# EAGLE library part EPM7192-P160 (library altera)
EPM7192E MAX 7000 family
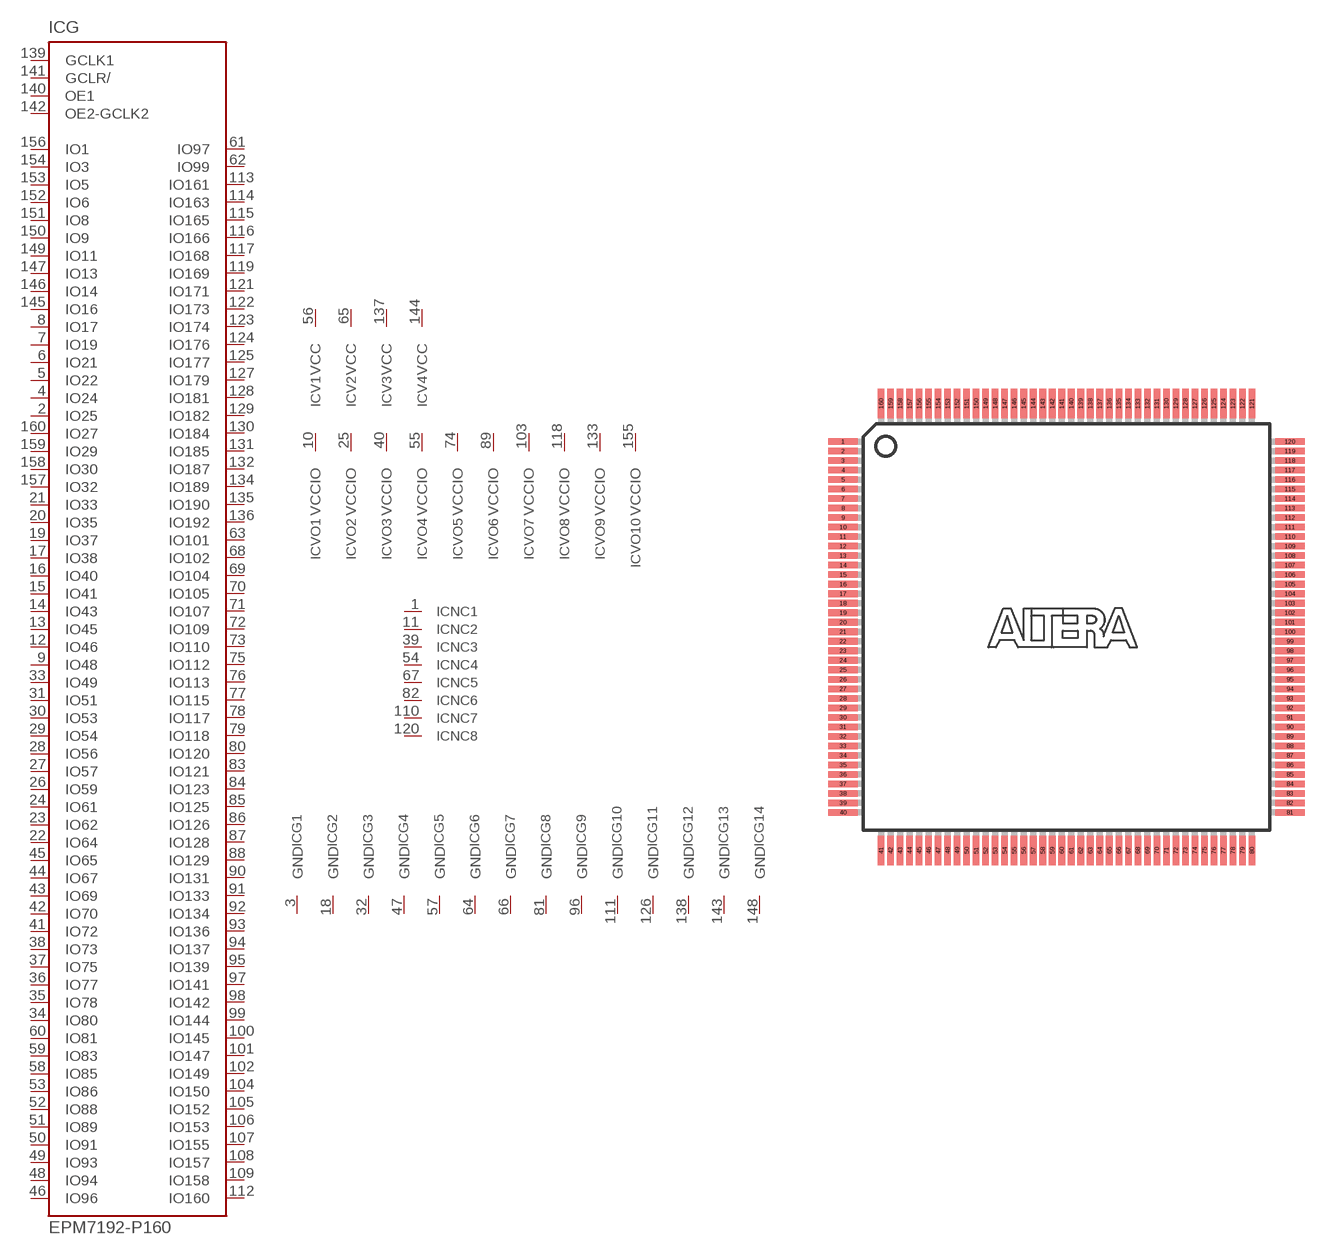
[diagram p19: symbol with the pads of PQFP160; footprint PQFP160]

Designator prefix IC; gates G1=GND G2=GND G3=GND G4=GND G5=GND G6=GND G7=GND G8=GND G9=GND G10=GND G11=GND G12=GND G13=GND G14=GND V1=VCCINT V2=VCCINT V3=VCCINT V4=VCCINT VO1=VCCIO VO2=VCCIO VO3=VCCIO VO4=VCCIO VO5=VCCIO VO6=VCCIO VO7=VCCIO VO8=VCCIO VO9=VCCIO VO10=VCCIO G=7192 NC1=NC NC2=NC NC3=NC NC4=NC NC5=NC NC6=NC NC7=NC NC8=NC

## EPM7192-P160 (MPN: EPM7192SQC160-10N; OC_FARNELL: 1549438; OC_NEWARK: 51R9820)  [PQFP160]
1  NC1:NC  nc
2  G:IO25
3  G1:GND  pwr
4  G:IO24
5  G:IO22
6  G:IO21
7  G:IO19
8  G:IO17
9  G:IO48
10  VO1:VCCIO  pwr
11  NC2:NC  nc
12  G:IO46
13  G:IO45
14  G:IO43
15  G:IO41
16  G:IO40
17  G:IO38
18  G2:GND  pwr
19  G:IO37
20  G:IO35
21  G:IO33
22  G:IO64
23  G:IO62
24  G:IO61
25  VO2:VCCIO  pwr
26  G:IO59
27  G:IO57
28  G:IO56
29  G:IO54
30  G:IO53
31  G:IO51
32  G3:GND  pwr
33  G:IO49
34  G:IO80
35  G:IO78
36  G:IO77
37  G:IO75
38  G:IO73
39  NC3:NC  nc
40  VO3:VCCIO  pwr
41  G:IO72
42  G:IO70
43  G:IO69
44  G:IO67
45  G:IO65
46  G:IO96
47  G4:GND  pwr
48  G:IO94
49  G:IO93
50  G:IO91
51  G:IO89
52  G:IO88
53  G:IO86
54  NC4:NC  nc
55  VO4:VCCIO  pwr
56  V1:VCC  pwr
57  G5:GND  pwr
58  G:IO85
59  G:IO83
60  G:IO81
61  G:IO97
62  G:IO99
63  G:IO101
64  G6:GND  pwr
65  V2:VCC  pwr
66  G7:GND  pwr
67  NC5:NC  nc
68  G:IO102
69  G:IO104
70  G:IO105
71  G:IO107
72  G:IO109
73  G:IO110
74  VO5:VCCIO  pwr
75  G:IO112
76  G:IO113
77  G:IO115
78  G:IO117
79  G:IO118
80  G:IO120
81  G8:GND  pwr
82  NC6:NC  nc
83  G:IO121
84  G:IO123
85  G:IO125
86  G:IO126
87  G:IO128
88  G:IO129
89  VO6:VCCIO  pwr
90  G:IO131
91  G:IO133
92  G:IO134
93  G:IO136
94  G:IO137
95  G:IO139
96  G9:GND  pwr
97  G:IO141
98  G:IO142
99  G:IO144
100  G:IO145
101  G:IO147
102  G:IO149
103  VO7:VCCIO  pwr
104  G:IO150
105  G:IO152
106  G:IO153
107  G:IO155
108  G:IO157
109  G:IO158
110  NC7:NC  nc
111  G10:GND  pwr
112  G:IO160
113  G:IO161
114  G:IO163
115  G:IO165
116  G:IO166
117  G:IO168
118  VO8:VCCIO  pwr
119  G:IO169
120  NC8:NC  nc
121  G:IO171
122  G:IO173
123  G:IO174
124  G:IO176
125  G:IO177
126  G11:GND  pwr
127  G:IO179
128  G:IO181
129  G:IO182
130  G:IO184
131  G:IO185
132  G:IO187
133  VO9:VCCIO  pwr
134  G:IO189
135  G:IO190
136  G:IO192
137  V3:VCC  pwr
138  G12:GND  pwr
139  G:GCLK1  in
140  G:OE1  in
141  G:GCLR/  in
142  G:OE2-GCLK2  in
143  G13:GND  pwr
144  V4:VCC  pwr
145  G:IO16
146  G:IO14
147  G:IO13
148  G14:GND  pwr
149  G:IO11
150  G:IO9
151  G:IO8
152  G:IO6
153  G:IO5
154  G:IO3
155  VO10:VCCIO  pwr
156  G:IO1
157  G:IO32
158  G:IO30
159  G:IO29
160  G:IO27

## Footprint PQFP160 (pad centres in mm)
Plastic Quad Flat Pack
smd 2 x 0.45: 1 -15.275,12.675; 2 -15.275,12.025; 3 -15.275,11.375; 4 -15.275,10.725; 5 -15.275,10.075; 6 -15.275,9.425; 7 -15.275,8.775; 8 -15.275,8.125; 9 -15.275,7.475; 10 -15.275,6.825; 11 -15.275,6.175; 12 -15.275,5.525; 13 -15.275,4.875; 14 -15.275,4.225; 15 -15.275,3.575; 16 -15.275,2.925; 17 -15.275,2.275; 18 -15.275,1.625; 19 -15.275,0.975; 20 -15.275,0.325; 21 -15.275,-0.325; 22 -15.275,-0.975; 23 -15.275,-1.625; 24 -15.275,-2.275; 25 -15.275,-2.925; 26 -15.275,-3.575; 27 -15.275,-4.225; 28 -15.275,-4.875; 29 -15.275,-5.525; 30 -15.275,-6.175; 31 -15.275,-6.825; 32 -15.275,-7.475; 33 -15.275,-8.125; 34 -15.275,-8.775; 35 -15.275,-9.425; 36 -15.275,-10.075; 37 -15.275,-10.725; 38 -15.275,-11.375; 39 -15.275,-12.025; 40 -15.275,-12.675; 81 15.275,-12.675; 82 15.275,-12.025; 83 15.275,-11.375; 84 15.275,-10.725; 85 15.275,-10.075; 86 15.275,-9.425; 87 15.275,-8.775; 88 15.275,-8.125; 89 15.275,-7.475; 90 15.275,-6.825; 91 15.275,-6.175; 92 15.275,-5.525; 93 15.275,-4.875; 94 15.275,-4.225; 95 15.275,-3.575; 96 15.275,-2.925; 97 15.275,-2.275; 98 15.275,-1.625; 99 15.275,-0.975; 100 15.275,-0.325; 101 15.275,0.325; 102 15.275,0.975; 103 15.275,1.625; 104 15.275,2.275; 105 15.275,2.925; 106 15.275,3.575; 107 15.275,4.225; 108 15.275,4.875; 109 15.275,5.525; 110 15.275,6.175; 111 15.275,6.825; 112 15.275,7.475; 113 15.275,8.125; 114 15.275,8.775; 115 15.275,9.425; 116 15.275,10.075; 117 15.275,10.725; 118 15.275,11.375; 119 15.275,12.025; 120 15.275,12.675
smd 0.45 x 2: 41 -12.675,-15.275; 42 -12.025,-15.275; 43 -11.375,-15.275; 44 -10.725,-15.275; 45 -10.075,-15.275; 46 -9.425,-15.275; 47 -8.775,-15.275; 48 -8.125,-15.275; 49 -7.475,-15.275; 50 -6.825,-15.275; 51 -6.175,-15.275; 52 -5.525,-15.275; 53 -4.875,-15.275; 54 -4.225,-15.275; 55 -3.575,-15.275; 56 -2.925,-15.275; 57 -2.275,-15.275; 58 -1.625,-15.275; 59 -0.975,-15.275; 60 -0.325,-15.275; 61 0.325,-15.275; 62 0.975,-15.275; 63 1.625,-15.275; 64 2.275,-15.275; 65 2.925,-15.275; 66 3.575,-15.275; 67 4.225,-15.275; 68 4.875,-15.275; 69 5.525,-15.275; 70 6.175,-15.275; 71 6.825,-15.275; 72 7.475,-15.275; 73 8.125,-15.275; 74 8.775,-15.275; 75 9.425,-15.275; 76 10.075,-15.275; 77 10.725,-15.275; 78 11.375,-15.275; 79 12.025,-15.275; 80 12.675,-15.275; 121 12.675,15.275; 122 12.025,15.275; 123 11.375,15.275; 124 10.725,15.275; 125 10.075,15.275; 126 9.425,15.275; 127 8.775,15.275; 128 8.125,15.275; 129 7.475,15.275; 130 6.825,15.275; 131 6.175,15.275; 132 5.525,15.275; 133 4.875,15.275; 134 4.225,15.275; 135 3.575,15.275; 136 2.925,15.275; 137 2.275,15.275; 138 1.625,15.275; 139 0.975,15.275; 140 0.325,15.275; 141 -0.325,15.275; 142 -0.975,15.275; 143 -1.625,15.275; 144 -2.275,15.275; 145 -2.925,15.275; 146 -3.575,15.275; 147 -4.225,15.275; 148 -4.875,15.275; 149 -5.525,15.275; 150 -6.175,15.275; 151 -6.825,15.275; 152 -7.475,15.275; 153 -8.125,15.275; 154 -8.775,15.275; 155 -9.425,15.275; 156 -10.075,15.275; 157 -10.725,15.275; 158 -11.375,15.275; 159 -12.025,15.275; 160 -12.675,15.275